# EAGLE library part PCA9554 (library X893)
http://www.nxp.com/documents/data_sheet/PCA9554_9554A.pdf
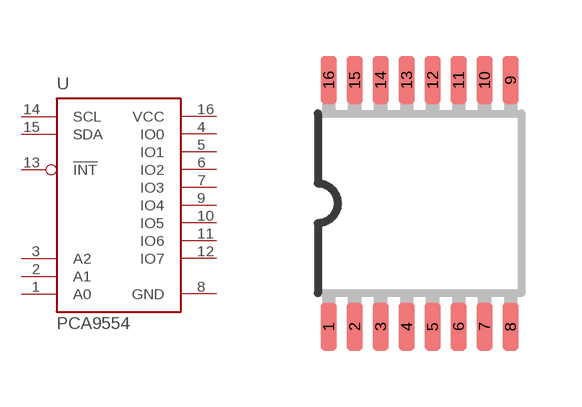
[diagram p42: symbol with the pads of TSSOP16; footprint TSSOP16]

Designator prefix U

## PCA9554-TSSOP16  [TSSOP16]
1  A0  in
2  A1  in
3  A2  in
4  IO0
5  IO1
6  IO2
7  IO3
8  GND  pwr
9  IO4
10  IO5
11  IO6
12  IO7
13  !INT  out
14  SCL  in
15  SDA
16  VCC  pwr

## Footprint TSSOP16 (pad centres in mm)
TSOP16 thin small outline package
smd 0.4 x 1.2: 1 -2.275,-3.087; 2 -1.625,-3.087; 3 -0.975,-3.087; 4 -0.325,-3.087; 5 0.325,-3.087; 6 0.975,-3.087; 7 1.625,-3.087; 8 2.275,-3.087; 9 2.275,3.087; 10 1.625,3.087; 11 0.975,3.087; 12 0.325,3.087; 13 -0.325,3.087; 14 -0.975,3.087; 15 -1.625,3.087; 16 -2.275,3.087